# Altium schematic symbol library LM7805_TO220.SchLib: 1 symbol
Pins are listed as number, name and electrical type; pins without a type are passive.

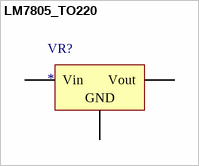
[diagram p0: symbol LM7805_TO220]

## LM7805_TO220
designator VR?
pins: 1 Vin, 2 GND, 3 Vout